# Altium schematic symbol library components_top.schlib: 3 symbols
Pins are listed as number, name and electrical type; pins without a type are passive.

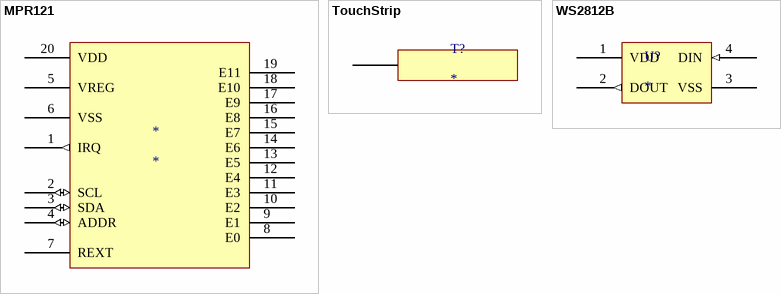
[diagram p0: symbols MPR121 to WS2812B]

## MPR121
designator *
footprint MPR121
pins: 1 IRQ (out), 2 SCL (io), 3 SDA (io), 4 ADDR (io), 5 VREG (power), 6 VSS (power), 7 REXT, 8 E0, 9 E1, 10 E2, 11 E3, 12 E4, 13 E5, 14 E6, 15 E7, 16 E8, 17 E9, 18 E10, 19 E11, 20 VDD (power)

## TouchStrip
designator T?
footprint TouchStrip
pins: 0

## WS2812B
designator U?
footprint WS2812B
pins: 1 VDD (power), 2 DOUT (out), 3 VSS (power), 4 DIN (in)